# Altium schematic symbol library SCH - DIODES - LED.SCHLIB: 1 symbol
Pins are listed as number, name and electrical type; pins without a type are passive.

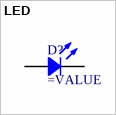
[diagram p0: symbol LED]

## LED
designator D?
Chip LED
footprint PCB - LED - VISHAY 1414_3535 UV
pins: 1, 2